# EAGLE library part HDMI_A (library HelmetHUD)
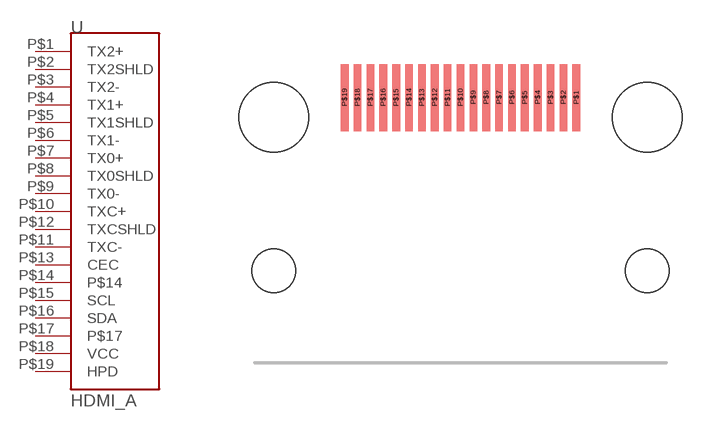
[diagram p6: symbol with the pads of HDMI_A_SMD; footprint HDMI_A_SMD]

Designator prefix -

## HDMI_A  [HDMI_A_SMD]
P$1  TX2+
P$2  TX2SHLD
P$3  TX2-
P$4  TX1+
P$5  TX1SHLD
P$6  TX1-
P$7  TX0+
P$8  TX0SHLD
P$9  TX0-
P$10  TXC+
P$11  TXC-
P$12  TXCSHLD
P$13  CEC
P$14  P$14
P$15  SCL
P$16  SDA
P$17  P$17
P$18  VCC
P$19  HPD

## Footprint HDMI_A_SMD (pad centres in mm)
smd 0.3 x 2.6: P$1 4.5,3.74; P$2 4,3.74; P$3 3.5,3.74; P$4 3,3.74; P$5 2.5,3.74; P$6 2,3.74; P$7 1.5,3.74; P$8 1,3.74; P$9 0.5,3.74; P$10 0,3.74; P$11 -0.5,3.74; P$12 -1,3.74; P$13 -1.5,3.74; P$14 -2,3.74; P$15 -2.5,3.74; P$16 -3,3.74; P$17 -3.5,3.74; P$18 -4,3.74; P$19 -4.5,3.74
hole 2.7 at -7.25,2.98
hole 2.7 at 7.25,2.98
hole 1.7 at -7.25,-2.98
hole 1.7 at 7.25,-2.98